# EAGLE library part XL1509-3.3E1 (library XL1509-3.3E1)
40V 2A SOP-8_150mil DC-DC Converters RoHS Source: Datasheet <https://datasheet.lcsc.com/szlcsc/XLSEMI-XL1509-3-3E1_C74193.pdf>
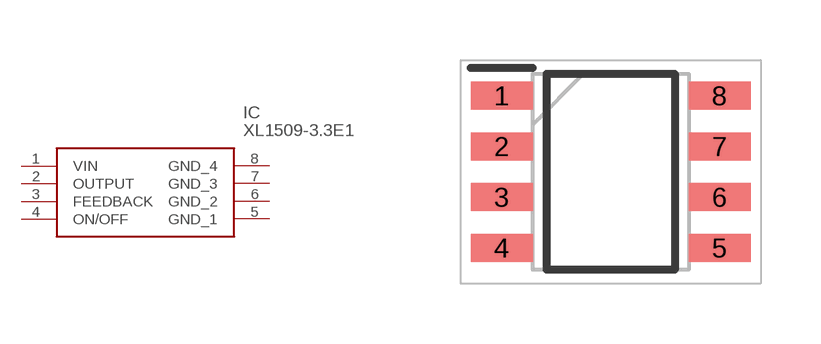
[diagram p0: symbol with the pads of SOIC127P600X175-8N; footprint SOIC127P600X175-8N]

Designator prefix IC

## XL1509-3.3E1 (Description: 40V 2A SOP-8_150mil DC-DC Converters RoHS; Height: 1.75mm; Manufacturer_Name: XLSEMI; Manufacturer_Part_Number: XL1509-3.3E1)  [SOIC127P600X175-8N]
1  VIN
2  OUTPUT
3  FEEDBACK
4  ON/OFF
5  GND_1
6  GND_2
7  GND_3
8  GND_4

## Footprint SOIC127P600X175-8N (pad centres in mm)
SOP8L
smd 1.55 x 0.7: 1 -2.725,1.905; 2 -2.725,0.635; 3 -2.725,-0.635; 4 -2.725,-1.905; 5 2.725,-1.905; 6 2.725,-0.635; 7 2.725,0.635; 8 2.725,1.905